# EAGLE library part OPA2369 (library powerfilm)
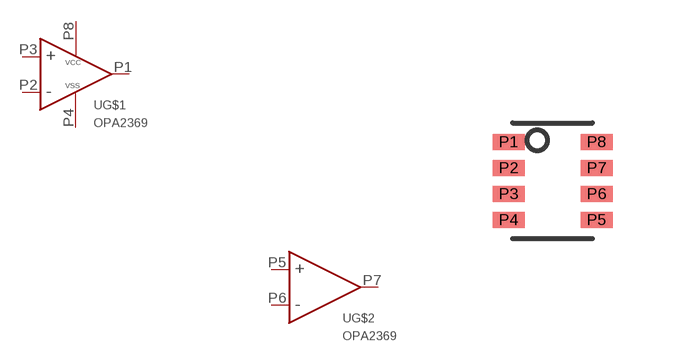
[diagram p6: symbol with the pads of SOT-23-8; footprint SOT-23-8]

Designator prefix U; gates G$1=OPAMP G$2=OPAMP_NP

## OPA2369 (DIGIKEY: 296-22671-1-ND)  [SOT-23-8]
P1  G$1:OUT
P2  G$1:IN-
P3  G$1:IN+
P4  G$1:VSS
P5  G$2:IN+
P6  G$2:IN-
P7  G$2:OUT
P8  G$1:VCC

## Footprint SOT-23-8 (pad centres in mm)
smd 0.8 x 0.4: P1 -1.1,0.975; P2 -1.1,0.325; P3 -1.1,-0.325; P4 -1.1,-0.975; P5 1.1,-0.975; P6 1.1,-0.325; P7 1.1,0.325; P8 1.1,0.975